# Altium footprint library PcbLib2.PcbLib: 1 footprints
Each footprint in its own frame and in the unit in brackets; x right, y up, seen from the top. Pads: shape width x height; smd on the part's side, far side on the other; paste and mask are expansions set on the pad; w line width, h text height; cw(c..) or ccw(c..) is an arc to the next point about the centre after c.
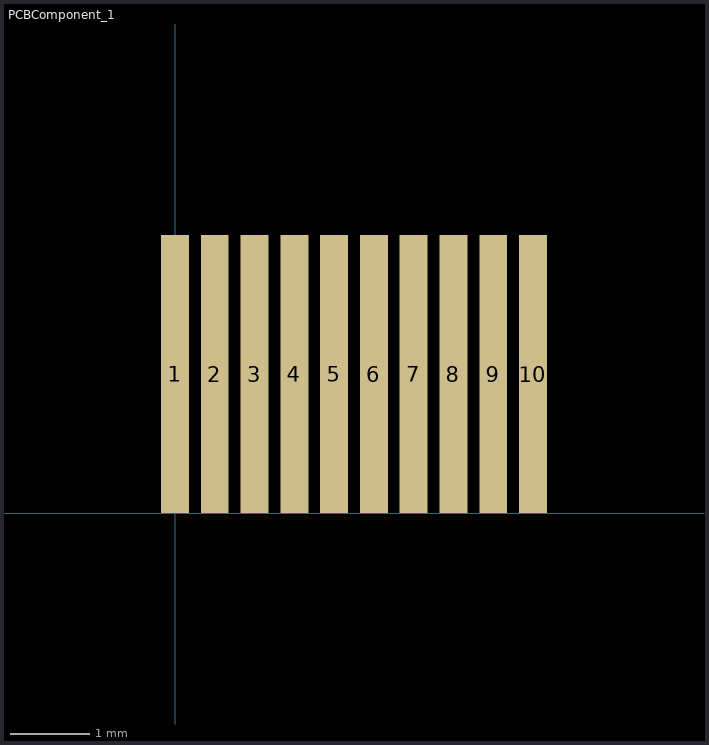
[diagram p0: the footprint, top view; thin cyan lines are the x and y axes]

## PCBComponent_1 [mm]
pads (10):
  rect 0.35x3.5 smd: 1(0,1.75) 2(0.5,1.75) 3(1,1.75) 4(1.5,1.75) 5(2,1.75) 6(2.5,1.75) 7(3,1.75) 8(3.5,1.75) 9(4,1.75) 10(4.5,1.75)